# Altium footprint library Conectors audio.PcbLib: 9 footprints
Each footprint in its own frame and in the unit in brackets; x right, y up, seen from the top. Pads: shape width x height; smd on the part's side, far side on the other; paste and mask are expansions set on the pad; w line width, h text height; cw(c..) or ccw(c..) is an arc to the next point about the centre after c.
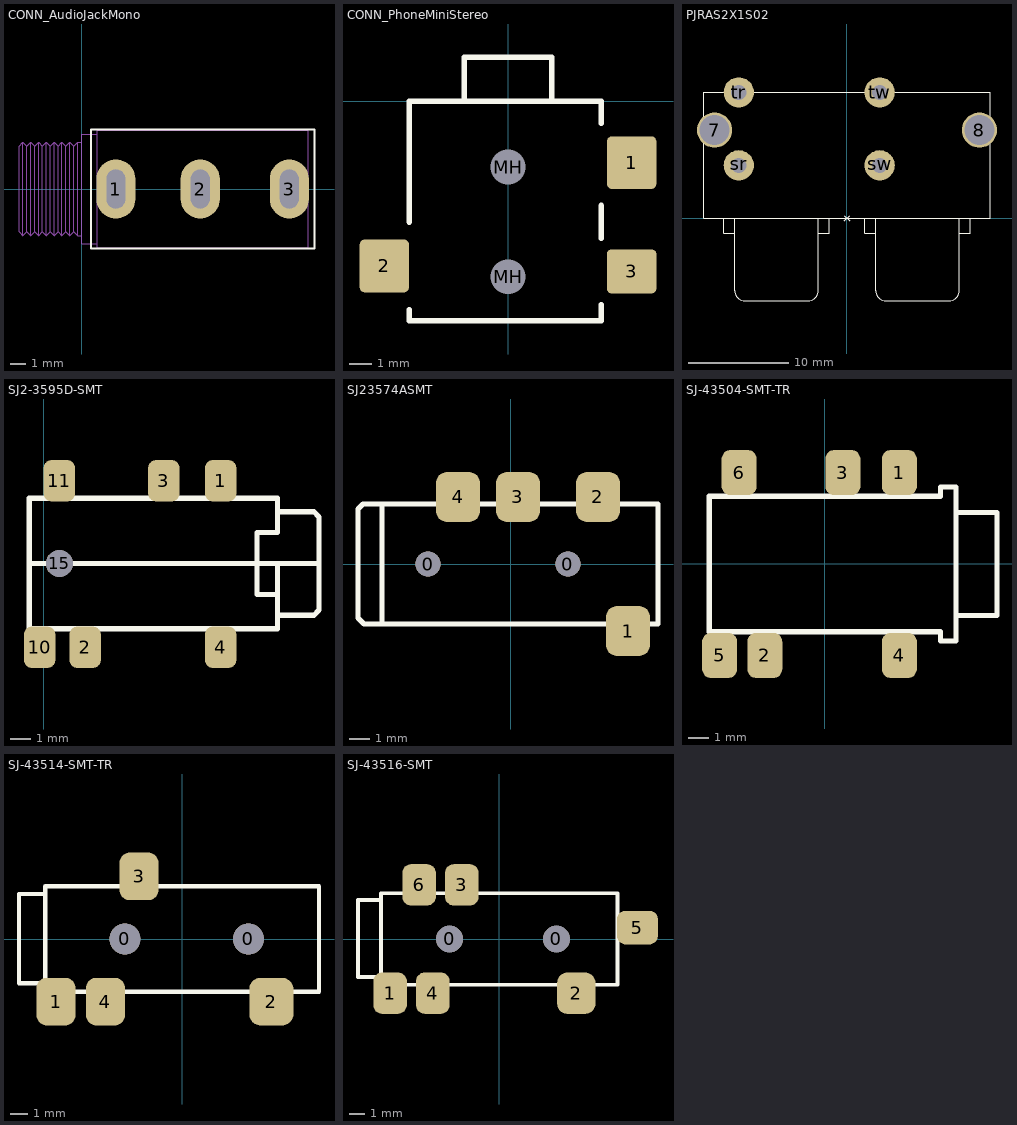
[diagram p0: the footprints below, top view; thin cyan lines are the x and y axes]

## CONN_AudioJackMono [mm] "CUI MJ-3502 3.5mm audio jack - mono"
height 11.3
pads (3):
  oval 2.5x3.8 hole 1.2 slot 2.5 at 90 deg: 1(2.2,0) 2(7.6,0) 3(13.3,0)
Top Overlay:
  lines w0.127: 0.6,-3.8 0.6,3.8 14.9,3.8 14.9,-3.8 0.6,-3.8
Mechanical 13:
  lines w0.05: 0,-3 -0.25,-3 ; 0,3 -0.25,3 ; 1,-3.5 0,-3.5 0,3.5 1,3.5 ; -3.75,-3 -4,-2.75 -4,2.75 -3.75,3 ; -3.75,-3 -3.5,-2.75 ; -3.75,-3 -3.75,3 ; -3.75,3 -3.5,2.75 ; -3.5,-2.75 -3.25,-3 ; -3.5,-2.75 -3.5,2.75 ; -3.5,2.75 -3.25,3 ; -3.25,-3 -3,-2.75 ; -3.25,-3 -3.25,3 ; -3.25,3 -3,2.75 ; -3,-2.75 -2.75,-3 ; -3,-2.75 -3,2.75 ; -3,2.75 -2.75,3 ; -2.75,-3 -2.5,-2.75 ; -2.75,-3 -2.75,3 ; -2.75,3 -2.5,2.75 ; -2.5,-2.75 -2.25,-3 ; -2.5,-2.75 -2.5,2.75 ; -2.5,2.75 -2.25,3 ; -2.25,-3 -2,-2.75 ; -2.25,-3 -2.25,3 ; -2.25,3 -2,2.75 ; -2,-2.75 -1.75,-3 ; -2,-2.75 -2,2.75 ; -2,2.75 -1.75,3 ; -1.75,-3 -1.5,-2.75 ; -1.75,-3 -1.75,3 ; -1.75,3 -1.5,2.75 ; -1.5,-2.75 -1.25,-3 ; -1.5,-2.75 -1.5,2.75 ; -1.5,2.75 -1.25,3 ; -1.25,-3 -1,-2.75 ; -1.25,-3 -1.25,3 ; -1.25,3 -1,2.75 ; -1,-2.75 -0.75,-3 ; -1,-2.75 -1,2.75 ; -1,2.75 -0.75,3 ; -0.75,-3 -0.5,-2.75 ; -0.75,-3 -0.75,3 ; -0.75,3 -0.5,2.75 ; -0.5,-2.75 -0.25,-3 ; -0.5,-2.75 -0.5,2.75 ; -0.5,2.75 -0.25,3 ; -0.25,-3 -0.25,3 ; 1,-3.75 14.5,-3.75 14.5,3.75 1,3.75 1,-3.75
3D body "Mono Connector MJ-3502.STEP": height 11.3, standoff -4.1, extent -4,-3.75 14.5,3.75

## CONN_PhoneMiniStereo [mm] "CUI SJ1-2513-SMT 2.5mm stereo jack"
height 4
pads (5):
  rrect20% 2.25x2.4 smd: 1(5.625,-2.8) 2(-5.625,-7.5)
  rrect20% 2.25x2 smd: 3(5.625,-7.75)
  round 1.524 hole 1.575 unplated: MH(0,-8) MH(0,-3)
Top Overlay:
  lines w0.254: -4.5,-9.5 -4.5,-10 4.25,-10 4.25,-9.275 ; -4.5,-5.5 -4.5,0 4.25,0 4.25,-1 ; -2,0 -2,2 2,2 2,0 ; 4.25,-6.25 4.25,-4.75
3D body "CUI-SJ1-2513-SMT.step": height 4.12, standoff -0.43, extent -6,-10 6,2

## PJRAS2X1S02 [mm]
pads (6):
  round 3.5 hole 3: 7(-13.15,8.75) 8(13.15,8.75)
  round 3 hole 1.5: sr(-10.75,5.25) sw(3.25,5.25) tr(-10.75,12.5) tw(3.25,12.5)
Top Overlay:
  lines w0.1: -14,8.75 -12.3,8.75 ; -12.25,0 -12.25,-1.5 -11.15,-1.5 ; -11.15,0 -11.15,-7.2 ccw(c-10.15,-7.2) -10.15,-8.2 -3.85,-8.2 ccw(c-3.85,-7.2) -2.85,-7.2 -2.85,0 ; -2.85,-1.5 -1.75,-1.5 -1.75,0 ; -0.25,-0.25 0.25,0.25 ; -0.25,0.25 0.25,-0.25 ; 1.75,0 1.75,-1.5 2.85,-1.5 ; 2.85,0 2.85,-7.2 ccw(c3.85,-7.2) 3.85,-8.2 10.15,-8.2 ccw(c10.15,-7.2) 11.15,-7.2 11.15,0 ; 11.15,-1.5 12.25,-1.5 12.25,0 ; 12.3,8.75 14,8.75 ; -14.25,0 14.25,0 14.25,12.5 -14.25,12.5 -14.25,0
3D body: height 10.65, standoff 2.35, extent -11.15,-8.2 -2.85,0
3D body: height 11.75, standoff 1.25, extent -12.25,-1.5 -1.75,0
3D body: height 10.65, standoff 2.35, extent 2.85,-8.2 11.15,0
3D body: height 11.75, standoff 1.25, extent 1.75,-1.5 12.25,0
3D body: height 0.75, standoff 0, extent 16.5,-11.25 16.5,-11.25

## SJ2-3595D-SMT [mm]
pads (7):
  rrect50% 1.524x2 smd: 1(8.55,-9.55) 2(2,-17.6) 3(5.8,-9.55) 4(8.55,-17.6) 10(-0.2,-17.6) 11(0.75,-9.55)
  round 1.3 hole 1.3 unplated: 15(0.75,-13.55)
Top Overlay:
  lines w0.254: -0.7,-13.55 13.3,-13.55 ; 0.75,-13.75 0.75,-13.55 11.3,-13.55 ; 0.75,-10.1 0.75,-10.4 11.3,-10.4 ; 2,-10.4 11.3,-10.4 ; 5.8,-10.2 5.8,-10.4 11.3,-10.4 ; 8.55,-10.4 11.3,-10.4 ; 11.35,-11.05 13.05,-11.05 13.3,-11.3 13.3,-13.55 ; 13.3,-13 13.3,-15.8 ; 10.3,-13.55 11.3,-13.55 ; 10.3,-13.55 10.3,-12.05 11.3,-12.05 11.3,-11 11.3,-10.4 ; 10.3,-13.55 10.3,-15.05 11.3,-15.05 ; 11.3,-16.05 11.3,-15.05 ; 11.3,-16.05 11.3,-16.7 -0.7,-16.7 -0.7,-10.4 11.3,-10.4 ; 11.3,-16.05 13.05,-16.05 13.3,-15.8 ; 11.3,-15.05 11.3,-13.55 ; 13.3,-15.8 13.3,-13.55
3D body "sj2-35954d-smt-tr.stp": height 4.4, standoff -0.6, extent -0.7,-17.7 13.3,-9.4

## SJ23574ASMT [mm]
pads (6):
  round 1.25 hole 1.25: 0(-4.138,0.005) 0(2.862,0.005)
  rrect50% 2.2x2.5 smd: 1(5.862,-3.345) 2(4.362,3.355) 3(0.362,3.355) 4(-2.638,3.355)
Top Overlay:
  lines w0.254: -4.138,0.005 -4.138,0.355 ; -2.638,-2.995 -6.438,-2.995 ; 0.362,-2.995 -6.438,-2.995 ; 2.862,0.005 2.862,0.255 ; 4.362,-2.995 -6.438,-2.995 ; 5.862,3.005 -6.438,3.005 ; -6.438,-2.995 -6.438,3.005 ; -6.438,3.005 7.362,3.005 ; 7.362,3.005 -7.388,3.005 -7.638,2.755 -7.638,-2.695 -7.338,-2.995 7.362,-2.995 7.362,3.005
3D body "sj2-3574a-smt-tr.stp": height 5.4, standoff -0.4, extent -7.638,-4.145 7.362,4.255

## SJ-250X-SMT [mm]

## SJ-43504-SMT-TR [mm]
pads (6):
  rrect50% 1.7x2.2 smd: 1(3.633,4.45) 2(-2.917,-4.45) 3(0.883,4.45) 4(3.633,-4.45) 5(-5.117,-4.45) 6(-4.167,4.45)
Top Overlay:
  lines w0.254: 6.383,-2.55 6.383,0 6.383,2.55 ; 6.383,2.5 8.383,2.5 ; 6.433,-2.55 6.433,-2.5 8.383,-2.5 ; 8.383,-2.5 8.383,0 8.383,2.5 ; 8.383,-2.5 8.383,2.5 ; -5.617,-3.3 -5.617,3.3 5.633,3.3 5.633,3.75 6.383,3.75 6.383,-3.75 5.633,-3.75 5.633,-3.3 -5.617,-3.3
3D body "sj-43504-smt-tr.stp": height 3.4, standoff -1.6, extent -5.667,-4.45 8.333,4.65

## SJ-43514-SMT-TR [mm]
pads (6):
  round 1.75 hole 1.75: 0(-3.25,0) 0(3.75,0)
  rrect50% 2.2x2.7 smd: 1(-7.15,-3.55) 3(-2.45,3.55) 4(-4.35,-3.55)
  rrect50% 2.5x2.7 smd: 2(5.05,-3.55)
Top Overlay:
  lines w0.254: -7.8,2.55 -9.25,2.55 -9.25,2.5 -9.25,0 -9.25,-2.5 -7.75,-2.5 ; -7.15,-3 -7.75,-3 ; -4.35,-3 -7.75,-3 ; -3.25,0 -3.25,0.3 ; -2.45,3 -7.75,3 ; 3.75,0 3.75,0.25 ; 5.05,-3 -7.75,-3 ; -7.75,-3 -7.75,3 ; -7.75,-3 7.75,-3 7.75,3 -7.75,3
3D body "sj-43514-smt-tr.stp": height 5.1, standoff -0.7, extent -9.45,-4.5 7.75,4.5

## SJ-43516-SMT [mm]
pads (8):
  round 1.75 hole 1.75: 0(-3.25,0) 0(3.75,0)
  rrect50% 2.2x2.7 smd: 1(-7.15,-3.55) 3(-2.45,3.55) 4(-4.35,-3.55) 6(-5.25,3.55)
  rrect50% 2.5x2.7 smd: 2(5.05,-3.55)
  rrect50% 2.7x2.2 smd: 5(9.05,0.75)
Top Overlay:
  lines w0.254: -7.8,2.55 -9.25,2.55 -9.25,2.5 -9.25,0 -9.25,-2.5 -7.75,-2.5 ; -7.15,-3 -7.75,-3 ; -4.35,-3 -7.75,-3 ; -3.25,0 -3.25,0.3 ; -2.45,3 -7.75,3 ; 3.75,0 3.75,0.25 ; 5.05,-3 -7.75,-3 ; -7.75,-3 -7.75,3 ; -7.75,-3 7.75,-3 7.75,3 -7.75,3
3D body "sj-43516-smt-tr.stp": height 5.1, standoff -0.7, extent -9.45,-4.55 9.75,4.45